# EAGLE library part TC301D (library ICs)
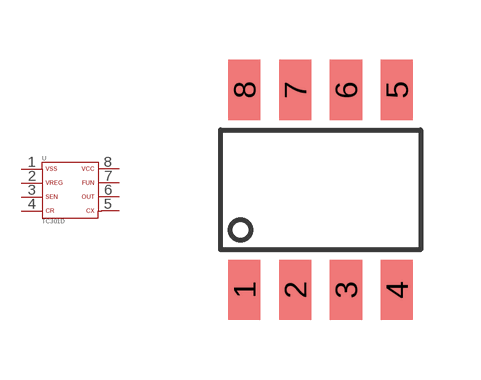
[diagram p5: symbol with the pads of SO-8; footprint SO-8]

Designator prefix U

## TC301D  [SO-8]
1  1  pas
2  2  pas
3  3  pas
4  4  pas
5  5  pas
6  6  pas
7  7  pas
8  8  pas

## Footprint SO-8 (pad centres in mm)
smd 0.805 x 1.505: 1 -1.905,-2.5; 2 -0.635,-2.5; 3 0.635,-2.5; 4 1.905,-2.5; 5 1.905,2.5; 6 0.635,2.5; 7 -0.635,2.5; 8 -1.905,2.5